# Altium footprint library BLLP412S.PcbLib: 1 footprints
Each footprint in its own frame and in the unit in brackets; x right, y up, seen from the top. Pads: shape width x height; smd on the part's side, far side on the other; paste and mask are expansions set on the pad; w line width, h text height; cw(c..) or ccw(c..) is an arc to the next point about the centre after c.
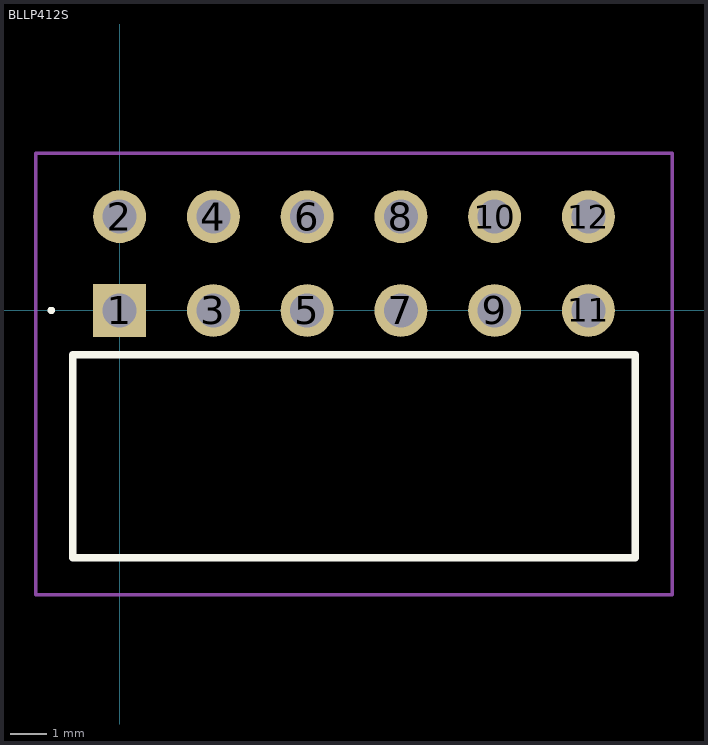
[diagram p0: the footprint, top view; thin cyan lines are the x and y axes]

## BLLP412S [mm]
pads (12):
  rect 1.431x1.431 hole 0.92: 1(0,0)
  round 1.431 hole 0.92: 2(0,2.54) 3(2.54,0) 4(2.54,2.54) 5(5.08,0) 6(5.08,2.54) 7(7.62,0) 8(7.62,2.54) 9(10.16,0) 10(10.16,2.54) 11(12.7,0) 12(12.7,2.54)
Top Overlay:
  lines w0.1: -1.9,0 -1.9,0 ; -1.9,0 ccw(c-1.85,0) -1.8,0 ; -1.9,0 cw(c-1.85,0) -1.8,0 ; -1.8,0 -1.8,0
  lines w0.2: -1.27,-6.7 13.97,-6.7 13.97,-1.2 -1.27,-1.2 -1.27,-6.7
Mechanical 15:
  lines w0.1: -1.27,-6.7 13.97,-6.7 13.97,-1.2 -1.27,-1.2 -1.27,-6.7
Mechanical 20:
  lines w0.1: -2.27,-7.7 14.97,-7.7 14.97,4.256 -2.27,4.256 -2.27,-7.7